# Altium schematic symbol library vcnl4000.SchLib: 2 symbols
Pins are listed as number, name and electrical type; pins without a type are passive.

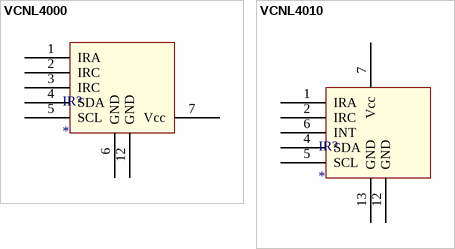
[diagram p0: symbols VCNL4000 to VCNL4010]

## VCNL4000
designator IR?
footprint VCNL4000
pins: 1 IRA, 2 IRC, 3 IRC, 4 SDA, 5 SCL, 6 GND, 7 Vcc, 12 GND

## VCNL4010
designator IR?
footprint VCNL4010
pins: 1 IRA, 2 IRC, 4 SDA, 5 SCL, 6 INT, 7 Vcc, 12 GND, 13 GND